# Altium footprint library BQ20Z70PW-V160.PcbLib: 3 footprints
Each footprint in its own frame and in the unit in brackets; x right, y up, seen from the top. Pads: shape width x height; smd on the part's side, far side on the other; paste and mask are expansions set on the pad; w line width, h text height; cw(c..) or ccw(c..) is an arc to the next point about the centre after c.
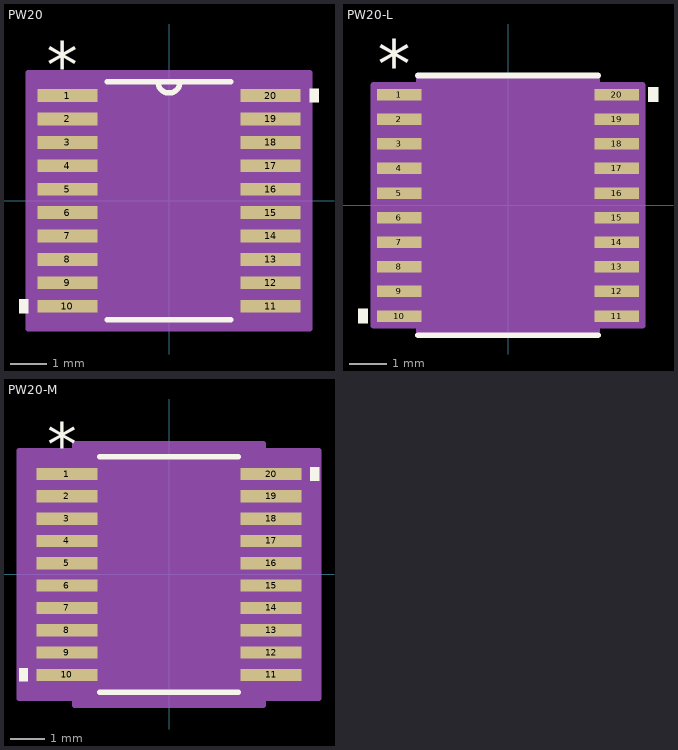
[diagram p0: the footprints below, top view; thin cyan lines are the x and y axes]

## PW20 [mil]
pads (20):
  rect 66x14 smd paste-33 mask-33: 1(-111,115.16) 2(-111,89.57) 3(-111,63.98) 4(-111,38.39) 5(-111,12.8) 6(-111,-12.8) 7(-111,-38.39) 8(-111,-63.98) 9(-111,-89.57) 10(-111,-115.16) 11(111,-115.16) 12(111,-89.57) 13(111,-63.98) 14(111,-38.39) 15(111,-12.8) 16(111,12.8) 17(111,38.39) 18(111,63.98) 19(111,89.57) 20(111,115.16)
Top Overlay:
  region: 154,122.66 164,122.66 164,107.66 154,107.66
  region: -154,-107.66 -164,-107.66 -164,-122.66 -154,-122.66
  lines w6: -67.51,-130 67.51,-130 ; -67.51,130 67.51,130 ; -12,130 ccw(c0,130) 12,130
  text "*" at -133.5,124.16 h50
Mechanical 13:
  lines w0: -12,130 ccw(c0,130) 12,130
  lines w1: -130,-121.16 -88.5,-121.16 -88.5,-109.16 -130,-109.16 -130,-121.16 ; -130,-95.57 -88.5,-95.57 -88.5,-83.57 -130,-83.57 -130,-95.57 ; -130,-69.98 -88.5,-69.98 -88.5,-57.98 -130,-57.98 -130,-69.98 ; -130,-44.39 -88.5,-44.39 -88.5,-32.39 -130,-32.39 -130,-44.39 ; -130,-18.8 -88.5,-18.8 -88.5,-6.8 -130,-6.8 -130,-18.8 ; -130,6.8 -88.5,6.8 -88.5,18.8 -130,18.8 -130,6.8 ; -130,32.39 -88.5,32.39 -88.5,44.39 -130,44.39 -130,32.39 ; -130,57.98 -88.5,57.98 -88.5,69.98 -130,69.98 -130,57.98 ; -130,83.57 -88.5,83.57 -88.5,95.57 -130,95.57 -130,83.57 ; -130,109.16 -88.5,109.16 -88.5,121.16 -130,121.16 -130,109.16 ; -88.5,-130 -88.5,130 88.5,130 88.5,-130 -88.5,-130 ; 88.5,-121.16 130,-121.16 130,-109.16 88.5,-109.16 88.5,-121.16 ; 88.5,-95.57 130,-95.57 130,-83.57 88.5,-83.57 88.5,-95.57 ; 88.5,-69.98 130,-69.98 130,-57.98 88.5,-57.98 88.5,-69.98 ; 88.5,-44.39 130,-44.39 130,-32.39 88.5,-32.39 88.5,-44.39 ; 88.5,-18.8 130,-18.8 130,-6.8 88.5,-6.8 88.5,-18.8 ; 88.5,6.8 130,6.8 130,18.8 88.5,18.8 88.5,6.8 ; 88.5,32.39 130,32.39 130,44.39 88.5,44.39 88.5,32.39 ; 88.5,57.98 130,57.98 130,69.98 88.5,69.98 88.5,57.98 ; 88.5,83.57 130,83.57 130,95.57 88.5,95.57 88.5,83.57 ; 88.5,109.16 130,109.16 130,121.16 88.5,121.16 88.5,109.16
  text "*" at -133.5,124.16 h50
Mechanical 15:
  region: 154,-140 -154,-140 -154,140 154,140
  lines w6: -154,-140 154,-140 154,140 -154,140 -154,-140
3D body "PW20.step": height 47.09, standoff 0, extent -130,-130 130,130
3D body "PW20.step": height 47.09, standoff 0, extent -130,-130 130,130

## PW20-L [mil]
pads (20):
  rect 46x12 smd paste+0 mask+0: 1(-113,115.16) 2(-113,89.57) 3(-113,63.98) 4(-113,38.39) 5(-113,12.8) 6(-113,-12.8) 7(-113,-38.39) 8(-113,-63.98) 9(-113,-89.57) 10(-113,-115.16) 11(113,-115.16) 12(113,-89.57) 13(113,-63.98) 14(113,-38.39) 15(113,-12.8) 16(113,12.8) 17(113,38.39) 18(113,63.98) 19(113,89.57) 20(113,115.16)
Top Overlay:
  region: -146,-107.66 -156,-107.66 -156,-122.66 -146,-122.66
  region: 146,122.66 156,122.66 156,107.66 146,107.66
  lines w6: -93.5,-135 93.5,-135 ; -93.5,135 93.5,135
  text "*" at -135.5,122.16 h50
Mechanical 13:
  lines w0: -12,130 ccw(c0,130) 12,130
  lines w1: -130,-121.16 -130,-109.16 -88.5,-109.16 -88.5,-121.16 -130,-121.16 ; -130,-95.57 -130,-83.57 -88.5,-83.57 -88.5,-95.57 -130,-95.57 ; -130,-69.98 -130,-57.98 -88.5,-57.98 -88.5,-69.98 -130,-69.98 ; -130,-44.39 -130,-32.39 -88.5,-32.39 -88.5,-44.39 -130,-44.39 ; -130,-18.8 -130,-6.8 -88.5,-6.8 -88.5,-18.8 -130,-18.8 ; -130,6.8 -130,18.8 -88.5,18.8 -88.5,6.8 -130,6.8 ; -130,32.39 -130,44.39 -88.5,44.39 -88.5,32.39 -130,32.39 ; -130,57.98 -130,69.98 -88.5,69.98 -88.5,57.98 -130,57.98 ; -130,83.57 -130,95.57 -88.5,95.57 -88.5,83.57 -130,83.57 ; -130,109.16 -130,121.16 -88.5,121.16 -88.5,109.16 -130,109.16 ; -88.5,-130 88.5,-130 88.5,130 -88.5,130 -88.5,-130 ; 88.5,-121.16 88.5,-109.16 130,-109.16 130,-121.16 88.5,-121.16 ; 88.5,-95.57 88.5,-83.57 130,-83.57 130,-95.57 88.5,-95.57 ; 88.5,-69.98 88.5,-57.98 130,-57.98 130,-69.98 88.5,-69.98 ; 88.5,-44.39 88.5,-32.39 130,-32.39 130,-44.39 88.5,-44.39 ; 88.5,-18.8 88.5,-6.8 130,-6.8 130,-18.8 88.5,-18.8 ; 88.5,6.8 88.5,18.8 130,18.8 130,6.8 88.5,6.8 ; 88.5,32.39 88.5,44.39 130,44.39 130,32.39 88.5,32.39 ; 88.5,57.98 88.5,69.98 130,69.98 130,57.98 88.5,57.98 ; 88.5,83.57 88.5,95.57 130,95.57 130,83.57 88.5,83.57 ; 88.5,109.16 88.5,121.16 130,121.16 130,109.16 88.5,109.16
  text "*" at -86,77 h50
Mechanical 15:
  region: -92.5,-125.16 -140,-125.16 -140,125.16 -92.5,125.16 -92.5,134 92.5,134 92.5,125.16 140,125.16 140,-125.16 92.5,-125.16 92.5,-134 -92.5,-134
  lines w6: -140,-125.16 -140,125.16 -92.5,125.16 -92.5,134 92.5,134 92.5,125.16 140,125.16 140,-125.16 92.5,-125.16 92.5,-134 -92.5,-134 -92.5,-125.16 -140,-125.16
3D body "PW20.step": height 47.09, standoff 0, extent -130,-130 130,130

## PW20-M [mil]
pads (20):
  rect 70x14 smd paste+0 mask+0: 1(-117,115.16) 2(-117,89.57) 3(-117,63.98) 4(-117,38.39) 5(-117,12.8) 6(-117,-12.8) 7(-117,-38.39) 8(-117,-63.98) 9(-117,-89.57) 10(-117,-115.16) 11(117,-115.16) 12(117,-89.57) 13(117,-63.98) 14(117,-38.39) 15(117,-12.8) 16(117,12.8) 17(117,38.39) 18(117,63.98) 19(117,89.57) 20(117,115.16)
Top Overlay:
  region: -162,-107.66 -172,-107.66 -172,-122.66 -162,-122.66
  region: 162,122.66 172,122.66 172,107.66 162,107.66
  lines w6: -79.42,-135 79.42,-135 ; -79.42,135 79.42,135
  text "*" at -139.5,124.16 h50
Mechanical 13:
  lines w0: -12,130 ccw(c0,130) 12,130
  lines w1: -130,-121.16 -130,-109.16 -88.5,-109.16 -88.5,-121.16 -130,-121.16 ; -130,-95.57 -130,-83.57 -88.5,-83.57 -88.5,-95.57 -130,-95.57 ; -130,-69.98 -130,-57.98 -88.5,-57.98 -88.5,-69.98 -130,-69.98 ; -130,-44.39 -130,-32.39 -88.5,-32.39 -88.5,-44.39 -130,-44.39 ; -130,-18.8 -130,-6.8 -88.5,-6.8 -88.5,-18.8 -130,-18.8 ; -130,6.8 -130,18.8 -88.5,18.8 -88.5,6.8 -130,6.8 ; -130,32.39 -130,44.39 -88.5,44.39 -88.5,32.39 -130,32.39 ; -130,57.98 -130,69.98 -88.5,69.98 -88.5,57.98 -130,57.98 ; -130,83.57 -130,95.57 -88.5,95.57 -88.5,83.57 -130,83.57 ; -130,109.16 -130,121.16 -88.5,121.16 -88.5,109.16 -130,109.16 ; -88.5,-130 88.5,-130 88.5,130 -88.5,130 -88.5,-130 ; 88.5,-121.16 88.5,-109.16 130,-109.16 130,-121.16 88.5,-121.16 ; 88.5,-95.57 88.5,-83.57 130,-83.57 130,-95.57 88.5,-95.57 ; 88.5,-69.98 88.5,-57.98 130,-57.98 130,-69.98 88.5,-69.98 ; 88.5,-44.39 88.5,-32.39 130,-32.39 130,-44.39 88.5,-44.39 ; 88.5,-18.8 88.5,-6.8 130,-6.8 130,-18.8 88.5,-18.8 ; 88.5,6.8 88.5,18.8 130,18.8 130,6.8 88.5,6.8 ; 88.5,32.39 88.5,44.39 130,44.39 130,32.39 88.5,32.39 ; 88.5,57.98 88.5,69.98 130,69.98 130,57.98 88.5,57.98 ; 88.5,83.57 88.5,95.57 130,95.57 130,83.57 88.5,83.57 ; 88.5,109.16 88.5,121.16 130,121.16 130,109.16 88.5,109.16
  text "*" at -86,77 h50
Mechanical 15:
  region: -108.5,-142.16 -172,-142.16 -172,142.16 -108.5,142.16 -108.5,150 108.5,150 108.5,142.16 172,142.16 172,-142.16 108.5,-142.16 108.5,-150 -108.5,-150
  lines w6: -172,-142.16 -172,142.16 -108.5,142.16 -108.5,150 108.5,150 108.5,142.16 172,142.16 172,-142.16 108.5,-142.16 108.5,-150 -108.5,-150 -108.5,-142.16 -172,-142.16
3D body "PW20.step": height 47.09, standoff 0, extent -130,-130 130,130